# Altium schematic symbol library WR-BHD.SchLib: 220 symbols (part 4 of 5)
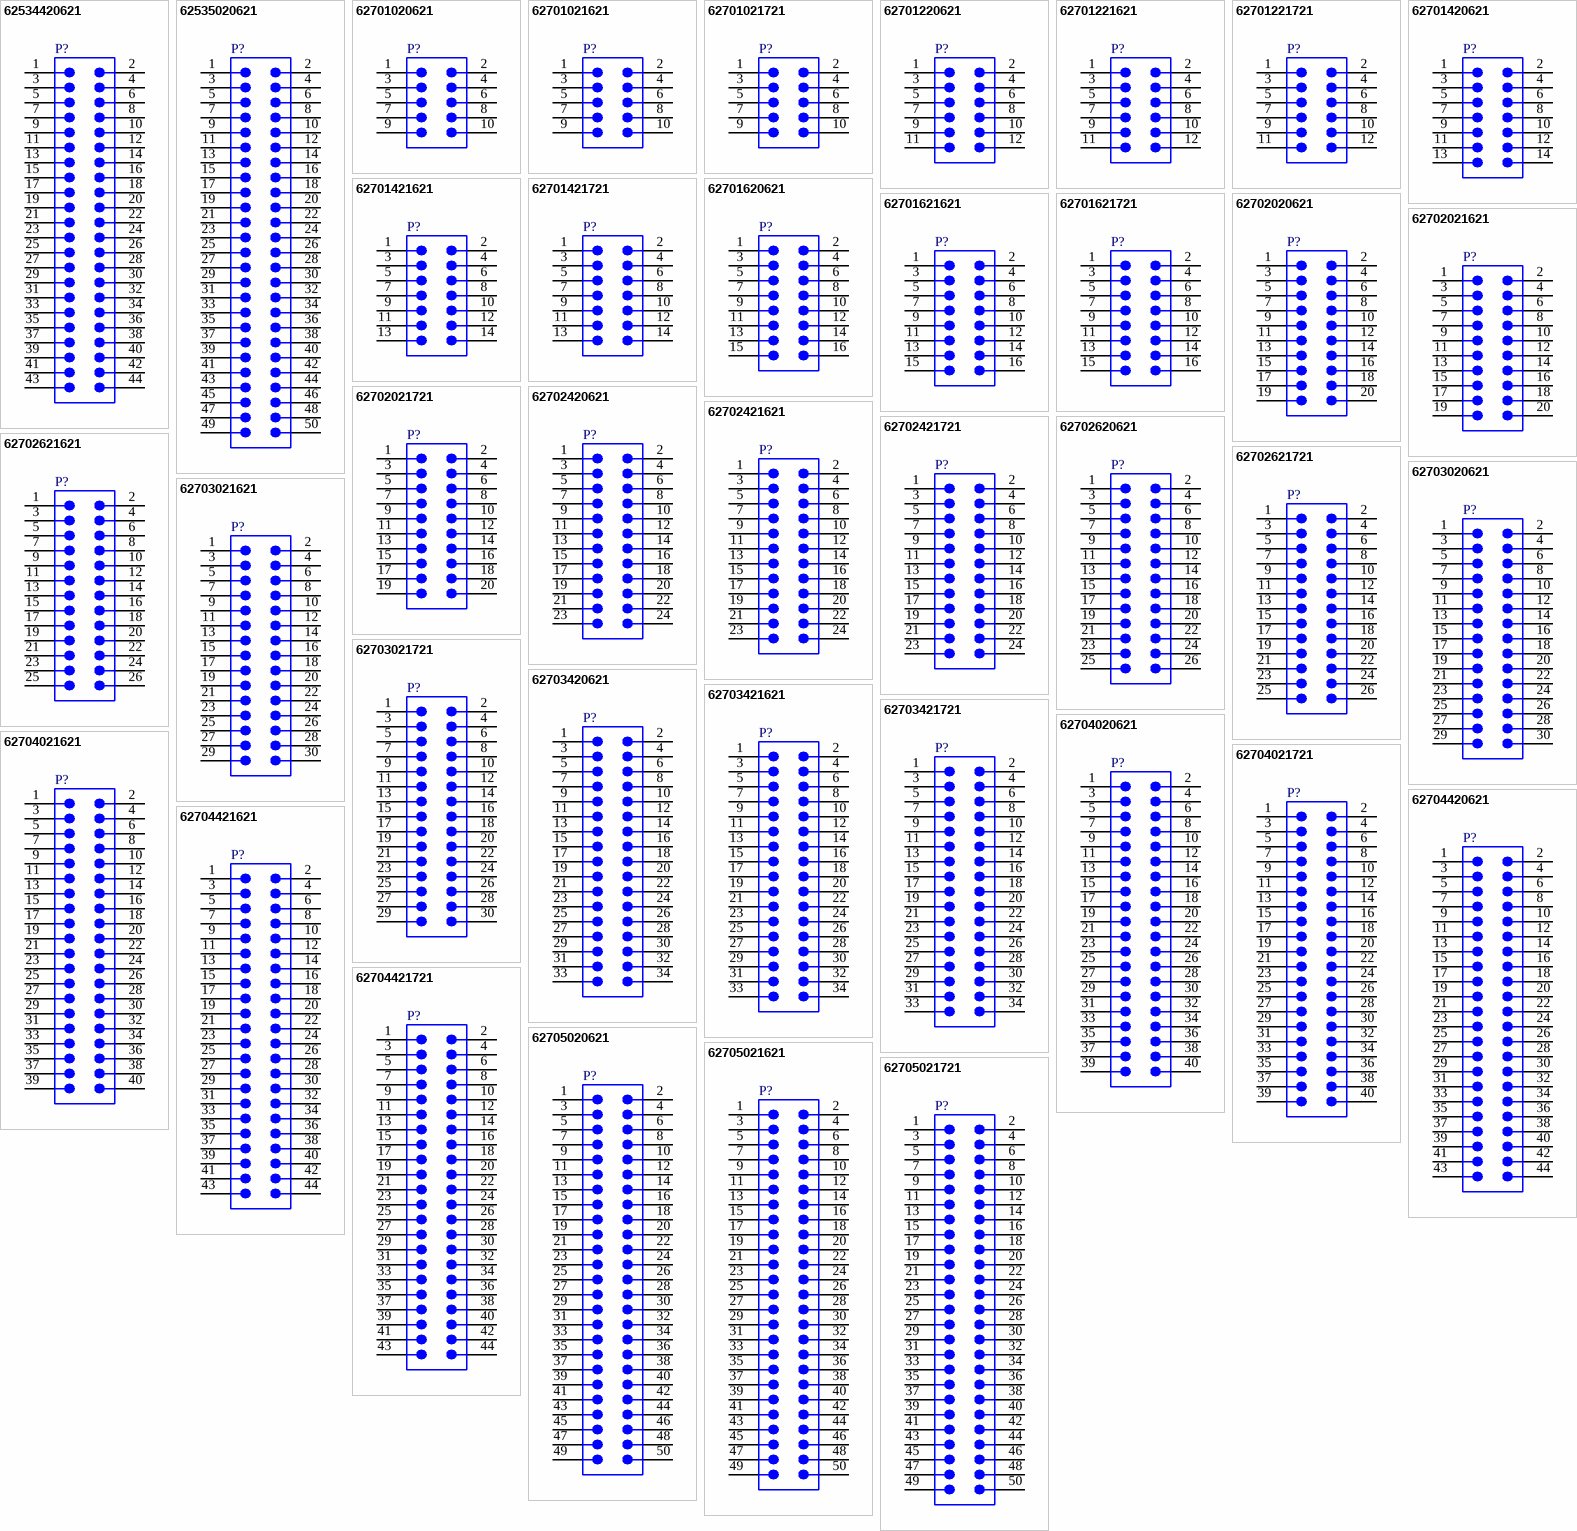
[diagram p8: symbols 62534420621 to 62705021721]

## 62534420621
designator P?  (value not drawn)
WR-BHD Male Box Header, SMT Straight, pitch 2 mm, 2 Rows, 44 Pins; Manufacturer: Wurth Elektronik; Contact Resistance: 20 mΩ; Insulation Resistance: 1000 MΩ; Pitch: 2 mm; Rated Current: 2 A; Working Voltage: 250 V; Withstanding Voltage: 500 V; Manufacturer Part Number: 62534420621; Category: Wire-to-Board Connector; Connectors.Match Code: WR-BHD; ComponentLink1Description: Website Link; ComponentLink1URL: https://www.we-online.com/redexpert/article/62534420621?ad; ComponentLink2Description: Datasheet Link; ComponentLink2URL: https://www.we-online.com/redexpert/spec/62534420621?ad; Mount: Surface Mount; Min Operating Temperature: -40 °C; Max Operating Temperature: 105 °C; Packaging: Tape and Reel with Cap; Length: 51.25 mm; Width: 5.5 mm; Height: 6.8 mm; Gender: Male; Number of Pins: 44; Number of Rows: 2; Orientation: Straight
footprint 62534420621
pins: 1, 2, 3, 4, 5, 6, 7, 8, 9, 10, 11, 12, 13, 14, 15, 16, 17, 18, 19, 20, 21, 22, 23, 24, 25, 26, 27, 28, 29, 30, 31, 32, 33, 34, 35, 36, 37, 38, 39, 40, 41, 42, 43, 44

## 62535020621
designator P?  (value not drawn)
WR-BHD Male Box Header, SMT Straight, pitch 2 mm, 2 Rows, 50 Pins; Manufacturer: Wurth Elektronik; Contact Resistance: 20 mΩ; Insulation Resistance: 1000 MΩ; Pitch: 2 mm; Rated Current: 2 A; Working Voltage: 250 V; Withstanding Voltage: 500 V; Manufacturer Part Number: 62535020621; Category: Wire-to-Board Connector; Connectors.Match Code: WR-BHD; ComponentLink1Description: Website Link; ComponentLink1URL: https://www.we-online.com/redexpert/article/62535020621?ad; ComponentLink2Description: Datasheet Link; ComponentLink2URL: https://www.we-online.com/redexpert/spec/62535020621?ad; Mount: Surface Mount; Min Operating Temperature: -40 °C; Max Operating Temperature: 105 °C; Packaging: Tape and Reel with Cap; Length: 57.25 mm; Width: 5.5 mm; Height: 6.8 mm; Gender: Male; Number of Pins: 50; Number of Rows: 2; Orientation: Straight
footprint 62535020621
pins: 1, 2, 3, 4, 5, 6, 7, 8, 9, 10, 11, 12, 13, 14, 15, 16, 17, 18, 19, 20, 21, 22, 23, 24, 25, 26, 27, 28, 29, 30, 31, 32, 33, 34, 35, 36, 37, 38, 39, 40, 41, 42, 43, 44, 45, 46, 47, 48, 49, 50

## 62701020621
designator P?  (value not drawn)
WR-BHD Male Box Header, SMT Straight, pitch 1.27 mm, 2 Rows, 10 Pins; Manufacturer: Wurth Elektronik; Contact Resistance: 20 mΩ; Insulation Resistance: 1000 MΩ; Pitch: 1.27 mm; Rated Current: 1 A; Working Voltage: 50 V; Withstanding Voltage: 500 V; Manufacturer Part Number: 62701020621; Category: Wire-to-Board Connector; Connectors.Match Code: WR-BHD; ComponentLink1Description: Website Link; ComponentLink1URL: https://www.we-online.com/redexpert/article/62701020621?ad; ComponentLink2Description: Datasheet Link; ComponentLink2URL: https://www.we-online.com/redexpert/spec/62701020621?ad; Mount: Surface Mount; Min Operating Temperature: -40 °C; Max Operating Temperature: 105 °C; Packaging: Tape and Reel; Length: 12.7 mm; Width: 5 mm; Height: 5.3 mm; Gender: Male; Number of Pins: 10; Number of Rows: 2; Orientation: Straight
footprint 62701020621
pins: 1, 2, 3, 4, 5, 6, 7, 8, 9, 10

## 62701021621
designator P?  (value not drawn)
WR-BHD Male Box Header, THT Straight, pitch 1.27 mm, 2 Rows, 10 Pins; Manufacturer: Wurth Elektronik; Contact Resistance: 20 mΩ; Insulation Resistance: 1000 MΩ; Pitch: 1.27 mm; Rated Current: 1 A; Working Voltage: 50 V; Withstanding Voltage: 500 V; Manufacturer Part Number: 62701021621; Category: Wire-to-Board Connector; Connectors.Match Code: WR-BHD; ComponentLink1Description: Website Link; ComponentLink1URL: https://www.we-online.com/redexpert/article/62701021621?ad; ComponentLink2Description: Datasheet Link; ComponentLink2URL: https://www.we-online.com/redexpert/spec/62701021621?ad; Mount: Through Hole; Min Operating Temperature: -40 °C; Max Operating Temperature: 105 °C; Packaging: Tube; Length: 12.7 mm; Width: 5 mm; Height: 4.9 mm; Gender: Male; Number of Pins: 10; Number of Rows: 2; Orientation: Straight
footprint 62701021621
pins: 1, 2, 3, 4, 5, 6, 7, 8, 9, 10

## 62701021721
designator P?  (value not drawn)
WR-BHD Male Box Header, THT Right Angle, pitch 1.27 mm, 2 Rows, 10 Pins; Manufacturer: Wurth Elektronik; Contact Resistance: 20 mΩ; Insulation Resistance: 1000 MΩ; Pitch: 1.27 mm; Rated Current: 1 A; Working Voltage: 50 V; Withstanding Voltage: 500 V; Manufacturer Part Number: 62701021721; Category: Wire-to-Board Connector; Connectors.Match Code: WR-BHD; ComponentLink1Description: Website Link; ComponentLink1URL: https://www.we-online.com/redexpert/article/62701021721?ad; ComponentLink2Description: Datasheet Link; ComponentLink2URL: https://www.we-online.com/redexpert/spec/62701021721?ad; Mount: Through Hole; Min Operating Temperature: -40 °C; Max Operating Temperature: 105 °C; Packaging: Tube; Length: 12.7 mm; Width: 6.97 mm; Height: 5 mm; Gender: Male; Number of Pins: 10; Number of Rows: 2; Orientation: Right Angle
footprint 62701021721
pins: 1, 2, 3, 4, 5, 6, 7, 8, 9, 10

## 62701220621
designator P?  (value not drawn)
WR-BHD Male Box Header, SMT Straight, pitch 1.27 mm, 2 Rows, 12 Pins; Manufacturer: Wurth Elektronik; Contact Resistance: 20 mΩ; Insulation Resistance: 1000 MΩ; Pitch: 1.27 mm; Rated Current: 1 A; Working Voltage: 50 V; Withstanding Voltage: 500 V; Manufacturer Part Number: 62701220621; Category: Wire-to-Board Connector; Connectors.Match Code: WR-BHD; ComponentLink1Description: Website Link; ComponentLink1URL: https://www.we-online.com/redexpert/article/62701220621?ad; ComponentLink2Description: Datasheet Link; ComponentLink2URL: https://www.we-online.com/redexpert/spec/62701220621?ad; Mount: Surface Mount; Min Operating Temperature: -40 °C; Max Operating Temperature: 105 °C; Packaging: Tape and Reel; Length: 13.97 mm; Width: 5 mm; Height: 5.3 mm; Gender: Male; Number of Pins: 12; Number of Rows: 2; Orientation: Straight
footprint 62701220621
pins: 1, 2, 3, 4, 5, 6, 7, 8, 9, 10, 11, 12

## 62701221621
designator P?  (value not drawn)
WR-BHD Male Box Header, THT Straight, pitch 1.27 mm, 2 Rows, 12 Pins; Manufacturer: Wurth Elektronik; Contact Resistance: 20 mΩ; Insulation Resistance: 1000 MΩ; Pitch: 1.27 mm; Rated Current: 1 A; Working Voltage: 50 V; Withstanding Voltage: 500 V; Manufacturer Part Number: 62701221621; Category: Wire-to-Board Connector; Connectors.Match Code: WR-BHD; ComponentLink1Description: Website Link; ComponentLink1URL: https://www.we-online.com/redexpert/article/62701221621?ad; ComponentLink2Description: Datasheet Link; ComponentLink2URL: https://www.we-online.com/redexpert/spec/62701221621?ad; Mount: Through Hole; Min Operating Temperature: -40 °C; Max Operating Temperature: 105 °C; Packaging: Tube; Length: 13.97 mm; Width: 5 mm; Height: 4.9 mm; Gender: Male; Number of Pins: 12; Number of Rows: 2; Orientation: Straight
footprint 62701221621
pins: 1, 2, 3, 4, 5, 6, 7, 8, 9, 10, 11, 12

## 62701221721
designator P?  (value not drawn)
WR-BHD Male Box Header, THT Right Angle, pitch 1.27 mm, 2 Rows, 12 Pins; Manufacturer: Wurth Elektronik; Contact Resistance: 20 mΩ; Insulation Resistance: 1000 MΩ; Pitch: 1.27 mm; Rated Current: 1 A; Working Voltage: 50 V; Withstanding Voltage: 500 V; Manufacturer Part Number: 62701221721; Category: Wire-to-Board Connector; Connectors.Match Code: WR-BHD; ComponentLink1Description: Website Link; ComponentLink1URL: https://www.we-online.com/redexpert/article/62701221721?ad; ComponentLink2Description: Datasheet Link; ComponentLink2URL: https://www.we-online.com/redexpert/spec/62701221721?ad; Mount: Through Hole; Min Operating Temperature: -40 °C; Max Operating Temperature: 105 °C; Packaging: Tube; Length: 13.97 mm; Width: 6.97 mm; Height: 5 mm; Gender: Male; Number of Pins: 12; Number of Rows: 2; Orientation: Right Angle
footprint 62701221721
pins: 1, 2, 3, 4, 5, 6, 7, 8, 9, 10, 11, 12

## 62701420621
designator P?  (value not drawn)
WR-BHD Male Box Header, SMT Straight, pitch 1.27 mm, 2 Rows, 14 Pins; Manufacturer: Wurth Elektronik; Contact Resistance: 20 mΩ; Insulation Resistance: 1000 MΩ; Pitch: 1.27 mm; Rated Current: 1 A; Working Voltage: 50 V; Withstanding Voltage: 500 V; Manufacturer Part Number: 62701420621; Category: Wire-to-Board Connector; Connectors.Match Code: WR-BHD; ComponentLink1Description: Website Link; ComponentLink1URL: https://www.we-online.com/redexpert/article/62701420621?ad; ComponentLink2Description: Datasheet Link; ComponentLink2URL: https://www.we-online.com/redexpert/spec/62701420621?ad; Mount: Surface Mount; Min Operating Temperature: -40 °C; Max Operating Temperature: 105 °C; Packaging: Tape and Reel; Length: 15.24 mm; Width: 5 mm; Height: 5.3 mm; Gender: Male; Number of Pins: 14; Number of Rows: 2; Orientation: Straight
footprint 62701420621
pins: 1, 2, 3, 4, 5, 6, 7, 8, 9, 10, 11, 12, 13, 14

## 62701421621
designator P?  (value not drawn)
WR-BHD Male Box Header, THT Straight, pitch 1.27 mm, 2 Rows, 14 Pins; Manufacturer: Wurth Elektronik; Contact Resistance: 20 mΩ; Insulation Resistance: 1000 MΩ; Pitch: 1.27 mm; Rated Current: 1 A; Working Voltage: 50 V; Withstanding Voltage: 500 V; Manufacturer Part Number: 62701421621; Category: Wire-to-Board Connector; Connectors.Match Code: WR-BHD; ComponentLink1Description: Website Link; ComponentLink1URL: https://www.we-online.com/redexpert/article/62701421621?ad; ComponentLink2Description: Datasheet Link; ComponentLink2URL: https://www.we-online.com/redexpert/spec/62701421621?ad; Mount: Through Hole; Min Operating Temperature: -40 °C; Max Operating Temperature: 105 °C; Packaging: Tube; Length: 15.24 mm; Width: 5 mm; Height: 4.9 mm; Gender: Male; Number of Pins: 14; Number of Rows: 2; Orientation: Straight
footprint 62701421621
pins: 1, 2, 3, 4, 5, 6, 7, 8, 9, 10, 11, 12, 13, 14

## 62701421721
designator P?  (value not drawn)
WR-BHD Male Box Header, THT Right Angle, pitch 1.27 mm, 2 Rows, 14 Pins; Manufacturer: Wurth Elektronik; Contact Resistance: 20 mΩ; Insulation Resistance: 1000 MΩ; Pitch: 1.27 mm; Rated Current: 1 A; Working Voltage: 50 V; Withstanding Voltage: 500 V; Manufacturer Part Number: 62701421721; Category: Wire-to-Board Connector; Connectors.Match Code: WR-BHD; ComponentLink1Description: Website Link; ComponentLink1URL: https://www.we-online.com/redexpert/article/62701421721?ad; ComponentLink2Description: Datasheet Link; ComponentLink2URL: https://www.we-online.com/redexpert/spec/62701421721?ad; Mount: Through Hole; Min Operating Temperature: -40 °C; Max Operating Temperature: 105 °C; Packaging: Tube; Length: 15.24 mm; Width: 6.97 mm; Height: 5 mm; Gender: Male; Number of Pins: 14; Number of Rows: 2; Orientation: Right Angle
footprint 62701421721
pins: 1, 2, 3, 4, 5, 6, 7, 8, 9, 10, 11, 12, 13, 14

## 62701620621
designator P?  (value not drawn)
WR-BHD Male Box Header, SMT Straight, pitch 1.27 mm, 2 Rows, 16 Pins; Manufacturer: Wurth Elektronik; Contact Resistance: 20 mΩ; Insulation Resistance: 1000 MΩ; Pitch: 1.27 mm; Rated Current: 1 A; Working Voltage: 50 V; Withstanding Voltage: 500 V; Manufacturer Part Number: 62701620621; Category: Wire-to-Board Connector; Connectors.Match Code: WR-BHD; ComponentLink1Description: Website Link; ComponentLink1URL: https://www.we-online.com/redexpert/article/62701620621?ad; ComponentLink2Description: Datasheet Link; ComponentLink2URL: https://www.we-online.com/redexpert/spec/62701620621?ad; Mount: Surface Mount; Min Operating Temperature: -40 °C; Max Operating Temperature: 105 °C; Packaging: Tape and Reel; Length: 16.51 mm; Width: 5 mm; Height: 5.3 mm; Gender: Male; Number of Pins: 16; Number of Rows: 2; Orientation: Straight
footprint 62701620621
pins: 1, 2, 3, 4, 5, 6, 7, 8, 9, 10, 11, 12, 13, 14, 15, 16

## 62701621621
designator P?  (value not drawn)
WR-BHD Male Box Header, THT Straight, pitch 1.27 mm, 2 Rows, 16 Pins; Manufacturer: Wurth Elektronik; Contact Resistance: 20 mΩ; Insulation Resistance: 1000 MΩ; Pitch: 1.27 mm; Rated Current: 1 A; Working Voltage: 50 V; Withstanding Voltage: 500 V; Manufacturer Part Number: 62701621621; Category: Wire-to-Board Connector; Connectors.Match Code: WR-BHD; ComponentLink1Description: Website Link; ComponentLink1URL: https://www.we-online.com/redexpert/article/62701621621?ad; ComponentLink2Description: Datasheet Link; ComponentLink2URL: https://www.we-online.com/redexpert/spec/62701621621?ad; Mount: Through Hole; Min Operating Temperature: -40 °C; Max Operating Temperature: 105 °C; Packaging: Tube; Length: 16.51 mm; Width: 5 mm; Height: 4.9 mm; Gender: Male; Number of Pins: 16; Number of Rows: 2; Orientation: Straight
footprint 62701621621
pins: 1, 2, 3, 4, 5, 6, 7, 8, 9, 10, 11, 12, 13, 14, 15, 16

## 62701621721
designator P?  (value not drawn)
WR-BHD Male Box Header, THT Right Angle, pitch 1.27 mm, 2 Rows, 16 Pins; Manufacturer: Wurth Elektronik; Contact Resistance: 20 mΩ; Insulation Resistance: 1000 MΩ; Pitch: 1.27 mm; Rated Current: 1 A; Working Voltage: 50 V; Withstanding Voltage: 500 V; Manufacturer Part Number: 62701621721; Category: Wire-to-Board Connector; Connectors.Match Code: WR-BHD; ComponentLink1Description: Website Link; ComponentLink1URL: https://www.we-online.com/redexpert/article/62701621721?ad; ComponentLink2Description: Datasheet Link; ComponentLink2URL: https://www.we-online.com/redexpert/spec/62701621721?ad; Mount: Through Hole; Min Operating Temperature: -40 °C; Max Operating Temperature: 105 °C; Packaging: Tube; Length: 16.51 mm; Width: 6.97 mm; Height: 5 mm; Gender: Male; Number of Pins: 16; Number of Rows: 2; Orientation: Right Angle
footprint 62701621721
pins: 1, 2, 3, 4, 5, 6, 7, 8, 9, 10, 11, 12, 13, 14, 15, 16

## 62702020621
designator P?  (value not drawn)
WR-BHD Male Box Header, SMT Straight, pitch 1.27 mm, 2 Rows, 20 Pins; Manufacturer: Wurth Elektronik; Contact Resistance: 20 mΩ; Insulation Resistance: 1000 MΩ; Pitch: 1.27 mm; Rated Current: 1 A; Working Voltage: 50 V; Withstanding Voltage: 500 V; Manufacturer Part Number: 62702020621; Category: Wire-to-Board Connector; Connectors.Match Code: WR-BHD; ComponentLink1Description: Website Link; ComponentLink1URL: https://www.we-online.com/redexpert/article/62702020621?ad; ComponentLink2Description: Datasheet Link; ComponentLink2URL: https://www.we-online.com/redexpert/spec/62702020621?ad; Mount: Surface Mount; Min Operating Temperature: -40 °C; Max Operating Temperature: 105 °C; Packaging: Tape and Reel; Length: 19.05 mm; Width: 5 mm; Height: 5.3 mm; Gender: Male; Number of Pins: 20; Number of Rows: 2; Orientation: Straight
footprint 62702020621
pins: 1, 2, 3, 4, 5, 6, 7, 8, 9, 10, 11, 12, 13, 14, 15, 16, 17, 18, 19, 20

## 62702021621
designator P?  (value not drawn)
WR-BHD Male Box Header, THT Straight, pitch 1.27 mm, 2 Rows, 20 Pins; Manufacturer: Wurth Elektronik; Contact Resistance: 20 mΩ; Insulation Resistance: 1000 MΩ; Pitch: 1.27 mm; Rated Current: 1 A; Working Voltage: 50 V; Withstanding Voltage: 500 V; Manufacturer Part Number: 62702021621; Category: Wire-to-Board Connector; Connectors.Match Code: WR-BHD; ComponentLink1Description: Website Link; ComponentLink1URL: https://www.we-online.com/redexpert/article/62702021621?ad; ComponentLink2Description: Datasheet Link; ComponentLink2URL: https://www.we-online.com/redexpert/spec/62702021621?ad; Mount: Through Hole; Min Operating Temperature: -40 °C; Max Operating Temperature: 105 °C; Packaging: Tube; Length: 19.05 mm; Width: 5 mm; Height: 4.9 mm; Gender: Male; Number of Pins: 20; Number of Rows: 2; Orientation: Straight
footprint 62702021621
pins: 1, 2, 3, 4, 5, 6, 7, 8, 9, 10, 11, 12, 13, 14, 15, 16, 17, 18, 19, 20

## 62702021721
designator P?  (value not drawn)
WR-BHD Male Box Header, THT Right Angle, pitch 1.27 mm, 2 Rows, 20 Pins; Manufacturer: Wurth Elektronik; Contact Resistance: 20 mΩ; Insulation Resistance: 1000 MΩ; Pitch: 1.27 mm; Rated Current: 1 A; Working Voltage: 50 V; Withstanding Voltage: 500 V; Manufacturer Part Number: 62702021721; Category: Wire-to-Board Connector; Connectors.Match Code: WR-BHD; ComponentLink1Description: Website Link; ComponentLink1URL: https://www.we-online.com/redexpert/article/62702021721?ad; ComponentLink2Description: Datasheet Link; ComponentLink2URL: https://www.we-online.com/redexpert/spec/62702021721?ad; Mount: Through Hole; Min Operating Temperature: -40 °C; Max Operating Temperature: 105 °C; Packaging: Tube; Length: 19.05 mm; Width: 6.97 mm; Height: 5 mm; Gender: Male; Number of Pins: 20; Number of Rows: 2; Orientation: Right Angle
footprint 62702021721
pins: 1, 2, 3, 4, 5, 6, 7, 8, 9, 10, 11, 12, 13, 14, 15, 16, 17, 18, 19, 20

## 62702420621
designator P?  (value not drawn)
WR-BHD Male Box Header, SMT Straight, pitch 1.27 mm, 2 Rows, 24 Pins; Manufacturer: Wurth Elektronik; Contact Resistance: 20 mΩ; Insulation Resistance: 1000 MΩ; Pitch: 1.27 mm; Rated Current: 1 A; Working Voltage: 50 V; Withstanding Voltage: 500 V; Manufacturer Part Number: 62702420621; Category: Wire-to-Board Connector; Connectors.Match Code: WR-BHD; ComponentLink1Description: Website Link; ComponentLink1URL: https://www.we-online.com/redexpert/article/62702420621?ad; ComponentLink2Description: Datasheet Link; ComponentLink2URL: https://www.we-online.com/redexpert/spec/62702420621?ad; Mount: Surface Mount; Min Operating Temperature: -40 °C; Max Operating Temperature: 105 °C; Packaging: Tape and Reel; Length: 21.59 mm; Width: 5 mm; Height: 5.3 mm; Gender: Male; Number of Pins: 24; Number of Rows: 2; Orientation: Straight
footprint 62702420621
pins: 1, 2, 3, 4, 5, 6, 7, 8, 9, 10, 11, 12, 13, 14, 15, 16, 17, 18, 19, 20, 21, 22, 23, 24

## 62702421621
designator P?  (value not drawn)
WR-BHD Male Box Header, THT Straight, pitch 1.27 mm, 2 Rows, 24 Pins; Manufacturer: Wurth Elektronik; Contact Resistance: 20 mΩ; Insulation Resistance: 1000 MΩ; Pitch: 1.27 mm; Rated Current: 1 A; Working Voltage: 50 V; Withstanding Voltage: 500 V; Manufacturer Part Number: 62702421621; Category: Wire-to-Board Connector; Connectors.Match Code: WR-BHD; ComponentLink1Description: Website Link; ComponentLink1URL: https://www.we-online.com/redexpert/article/62702421621?ad; ComponentLink2Description: Datasheet Link; ComponentLink2URL: https://www.we-online.com/redexpert/spec/62702421621?ad; Mount: Through Hole; Min Operating Temperature: -40 °C; Max Operating Temperature: 105 °C; Packaging: Tube; Length: 21.59 mm; Width: 5 mm; Height: 4.9 mm; Gender: Male; Number of Pins: 24; Number of Rows: 2; Orientation: Straight
footprint 62702421621
pins: 1, 2, 3, 4, 5, 6, 7, 8, 9, 10, 11, 12, 13, 14, 15, 16, 17, 18, 19, 20, 21, 22, 23, 24

## 62702421721
designator P?  (value not drawn)
WR-BHD Male Box Header, THT Right Angle, pitch 1.27 mm, 2 Rows, 24 Pins; Manufacturer: Wurth Elektronik; Contact Resistance: 20 mΩ; Insulation Resistance: 1000 MΩ; Pitch: 1.27 mm; Rated Current: 1 A; Working Voltage: 50 V; Withstanding Voltage: 500 V; Manufacturer Part Number: 62702421721; Category: Wire-to-Board Connector; Connectors.Match Code: WR-BHD; ComponentLink1Description: Website Link; ComponentLink1URL: https://www.we-online.com/redexpert/article/62702421721?ad; ComponentLink2Description: Datasheet Link; ComponentLink2URL: https://www.we-online.com/redexpert/spec/62702421721?ad; Mount: Through Hole; Min Operating Temperature: -40 °C; Max Operating Temperature: 105 °C; Packaging: Tube; Length: 21.59 mm; Width: 6.97 mm; Height: 5 mm; Gender: Male; Number of Pins: 24; Number of Rows: 2; Orientation: Right Angle
footprint 62702421721
pins: 1, 2, 3, 4, 5, 6, 7, 8, 9, 10, 11, 12, 13, 14, 15, 16, 17, 18, 19, 20, 21, 22, 23, 24

## 62702620621
designator P?  (value not drawn)
WR-BHD Male Box Header, SMT Straight, pitch 1.27 mm, 2 Rows, 26 Pins; Manufacturer: Wurth Elektronik; Contact Resistance: 20 mΩ; Insulation Resistance: 1000 MΩ; Pitch: 1.27 mm; Rated Current: 1 A; Working Voltage: 50 V; Withstanding Voltage: 500 V; Manufacturer Part Number: 62702620621; Category: Wire-to-Board Connector; Connectors.Match Code: WR-BHD; ComponentLink1Description: Website Link; ComponentLink1URL: https://www.we-online.com/redexpert/article/62702620621?ad; ComponentLink2Description: Datasheet Link; ComponentLink2URL: https://www.we-online.com/redexpert/spec/62702620621?ad; Mount: Surface Mount; Min Operating Temperature: -40 °C; Max Operating Temperature: 105 °C; Packaging: Tape and Reel; Length: 22.86 mm; Width: 5 mm; Height: 5.3 mm; Gender: Male; Number of Pins: 26; Number of Rows: 2; Orientation: Straight
footprint 62702620621
pins: 1, 2, 3, 4, 5, 6, 7, 8, 9, 10, 11, 12, 13, 14, 15, 16, 17, 18, 19, 20, 21, 22, 23, 24, 25, 26

## 62702621621
designator P?  (value not drawn)
WR-BHD Male Box Header, THT Straight, pitch 1.27 mm, 2 Rows, 26 Pins; Manufacturer: Wurth Elektronik; Contact Resistance: 20 mΩ; Insulation Resistance: 1000 MΩ; Pitch: 1.27 mm; Rated Current: 1 A; Working Voltage: 50 V; Withstanding Voltage: 500 V; Manufacturer Part Number: 62702621621; Category: Wire-to-Board Connector; Connectors.Match Code: WR-BHD; ComponentLink1Description: Website Link; ComponentLink1URL: https://www.we-online.com/redexpert/article/62702621621?ad; ComponentLink2Description: Datasheet Link; ComponentLink2URL: https://www.we-online.com/redexpert/spec/62702621621?ad; Mount: Through Hole; Min Operating Temperature: -40 °C; Max Operating Temperature: 105 °C; Packaging: Tube; Length: 22.86 mm; Width: 5 mm; Height: 4.9 mm; Gender: Male; Number of Pins: 26; Number of Rows: 2; Orientation: Straight
footprint 62702621621
pins: 1, 2, 3, 4, 5, 6, 7, 8, 9, 10, 11, 12, 13, 14, 15, 16, 17, 18, 19, 20, 21, 22, 23, 24, 25, 26

## 62702621721
designator P?  (value not drawn)
WR-BHD Male Box Header, THT Right Angle, pitch 1.27 mm, 2 Rows, 26 Pins; Manufacturer: Wurth Elektronik; Contact Resistance: 20 mΩ; Insulation Resistance: 1000 MΩ; Pitch: 1.27 mm; Rated Current: 1 A; Working Voltage: 50 V; Withstanding Voltage: 500 V; Manufacturer Part Number: 62702621721; Category: Wire-to-Board Connector; Connectors.Match Code: WR-BHD; ComponentLink1Description: Website Link; ComponentLink1URL: https://www.we-online.com/redexpert/article/62702621721?ad; ComponentLink2Description: Datasheet Link; ComponentLink2URL: https://www.we-online.com/redexpert/spec/62702621721?ad; Mount: Through Hole; Min Operating Temperature: -40 °C; Max Operating Temperature: 105 °C; Packaging: Tube; Length: 22.86 mm; Width: 6.97 mm; Height: 5 mm; Gender: Male; Number of Pins: 26; Number of Rows: 2; Orientation: Right Angle
footprint 62702621721
pins: 1, 2, 3, 4, 5, 6, 7, 8, 9, 10, 11, 12, 13, 14, 15, 16, 17, 18, 19, 20, 21, 22, 23, 24, 25, 26

## 62703020621
designator P?  (value not drawn)
WR-BHD Male Box Header, SMT Straight, pitch 1.27 mm, 2 Rows, 30 Pins; Manufacturer: Wurth Elektronik; Contact Resistance: 20 mΩ; Insulation Resistance: 1000 MΩ; Pitch: 1.27 mm; Rated Current: 1 A; Working Voltage: 50 V; Withstanding Voltage: 500 V; Manufacturer Part Number: 62703020621; Category: Wire-to-Board Connector; Connectors.Match Code: WR-BHD; ComponentLink1Description: Website Link; ComponentLink1URL: https://www.we-online.com/redexpert/article/62703020621?ad; ComponentLink2Description: Datasheet Link; ComponentLink2URL: https://www.we-online.com/redexpert/spec/62703020621?ad; Mount: Surface Mount; Min Operating Temperature: -40 °C; Max Operating Temperature: 105 °C; Packaging: Tape and Reel; Length: 25.4 mm; Width: 5 mm; Height: 5.3 mm; Gender: Male; Number of Pins: 30; Number of Rows: 2; Orientation: Straight
footprint 62703020621
pins: 1, 2, 3, 4, 5, 6, 7, 8, 9, 10, 11, 12, 13, 14, 15, 16, 17, 18, 19, 20, 21, 22, 23, 24, 25, 26, 27, 28, 29, 30

## 62703021621
designator P?  (value not drawn)
WR-BHD Male Box Header, THT Straight, pitch 1.27 mm, 2 Rows, 30 Pins; Manufacturer: Wurth Elektronik; Contact Resistance: 20 mΩ; Insulation Resistance: 1000 MΩ; Pitch: 1.27 mm; Rated Current: 1 A; Working Voltage: 50 V; Withstanding Voltage: 500 V; Manufacturer Part Number: 62703021621; Category: Wire-to-Board Connector; Connectors.Match Code: WR-BHD; ComponentLink1Description: Website Link; ComponentLink1URL: https://www.we-online.com/redexpert/article/62703021621?ad; ComponentLink2Description: Datasheet Link; ComponentLink2URL: https://www.we-online.com/redexpert/spec/62703021621?ad; Mount: Through Hole; Min Operating Temperature: -40 °C; Max Operating Temperature: 105 °C; Packaging: Tube; Length: 25.4 mm; Width: 5 mm; Height: 4.9 mm; Gender: Male; Number of Pins: 30; Number of Rows: 2; Orientation: Straight
footprint 62703021621
pins: 1, 2, 3, 4, 5, 6, 7, 8, 9, 10, 11, 12, 13, 14, 15, 16, 17, 18, 19, 20, 21, 22, 23, 24, 25, 26, 27, 28, 29, 30

## 62703021721
designator P?  (value not drawn)
WR-BHD Male Box Header, THT Right Angle, pitch 1.27 mm, 2 Rows, 30 Pins; Manufacturer: Wurth Elektronik; Contact Resistance: 20 mΩ; Insulation Resistance: 1000 MΩ; Pitch: 1.27 mm; Rated Current: 1 A; Working Voltage: 50 V; Withstanding Voltage: 500 V; Manufacturer Part Number: 62703021721; Category: Wire-to-Board Connector; Connectors.Match Code: WR-BHD; ComponentLink1Description: Website Link; ComponentLink1URL: https://www.we-online.com/redexpert/article/62703021721?ad; ComponentLink2Description: Datasheet Link; ComponentLink2URL: https://www.we-online.com/redexpert/spec/62703021721?ad; Mount: Through Hole; Min Operating Temperature: -40 °C; Max Operating Temperature: 105 °C; Packaging: Tube; Length: 25.4 mm; Width: 6.97 mm; Height: 5 mm; Gender: Male; Number of Pins: 30; Number of Rows: 2; Orientation: Right Angle
footprint 62703021721
pins: 1, 2, 3, 4, 5, 6, 7, 8, 9, 10, 11, 12, 13, 14, 15, 16, 17, 18, 19, 20, 21, 22, 23, 24, 25, 26, 27, 28, 29, 30

## 62703420621
designator P?  (value not drawn)
WR-BHD Male Box Header, SMT Straight, pitch 1.27 mm, 2 Rows, 34 Pins; Manufacturer: Wurth Elektronik; Contact Resistance: 20 mΩ; Insulation Resistance: 1000 MΩ; Pitch: 1.27 mm; Rated Current: 1 A; Working Voltage: 50 V; Withstanding Voltage: 500 V; Manufacturer Part Number: 62703420621; Category: Wire-to-Board Connector; Connectors.Match Code: WR-BHD; ComponentLink1Description: Website Link; ComponentLink1URL: https://www.we-online.com/redexpert/article/62703420621?ad; ComponentLink2Description: Datasheet Link; ComponentLink2URL: https://www.we-online.com/redexpert/spec/62703420621?ad; Mount: Surface Mount; Min Operating Temperature: -40 °C; Max Operating Temperature: 105 °C; Packaging: Tape and Reel; Length: 27.94 mm; Width: 5 mm; Height: 5.3 mm; Gender: Male; Number of Pins: 34; Number of Rows: 2; Orientation: Straight
footprint 62703420621
pins: 1, 2, 3, 4, 5, 6, 7, 8, 9, 10, 11, 12, 13, 14, 15, 16, 17, 18, 19, 20, 21, 22, 23, 24, 25, 26, 27, 28, 29, 30, 31, 32, 33, 34

## 62703421621
designator P?  (value not drawn)
WR-BHD Male Box Header, THT Straight, pitch 1.27 mm, 2 Rows, 34 Pins; Manufacturer: Wurth Elektronik; Contact Resistance: 20 mΩ; Insulation Resistance: 1000 MΩ; Pitch: 1.27 mm; Rated Current: 1 A; Working Voltage: 50 V; Withstanding Voltage: 500 V; Manufacturer Part Number: 62703421621; Category: Wire-to-Board Connector; Connectors.Match Code: WR-BHD; ComponentLink1Description: Website Link; ComponentLink1URL: https://www.we-online.com/redexpert/article/62703421621?ad; ComponentLink2Description: Datasheet Link; ComponentLink2URL: https://www.we-online.com/redexpert/spec/62703421621?ad; Mount: Through Hole; Min Operating Temperature: -40 °C; Max Operating Temperature: 105 °C; Packaging: Tube; Length: 27.94 mm; Width: 5 mm; Height: 4.9 mm; Gender: Male; Number of Pins: 34; Number of Rows: 2; Orientation: Straight
footprint 62703421621
pins: 1, 2, 3, 4, 5, 6, 7, 8, 9, 10, 11, 12, 13, 14, 15, 16, 17, 18, 19, 20, 21, 22, 23, 24, 25, 26, 27, 28, 29, 30, 31, 32, 33, 34

## 62703421721
designator P?  (value not drawn)
WR-BHD Male Box Header, THT Right Angle, pitch 1.27 mm, 2 Rows, 34 Pins; Manufacturer: Wurth Elektronik; Contact Resistance: 20 mΩ; Insulation Resistance: 1000 MΩ; Pitch: 1.27 mm; Rated Current: 1 A; Working Voltage: 50 V; Withstanding Voltage: 500 V; Manufacturer Part Number: 62703421721; Category: Wire-to-Board Connector; Connectors.Match Code: WR-BHD; ComponentLink1Description: Website Link; ComponentLink1URL: https://www.we-online.com/redexpert/article/62703421721?ad; ComponentLink2Description: Datasheet Link; ComponentLink2URL: https://www.we-online.com/redexpert/spec/62703421721?ad; Mount: Through Hole; Min Operating Temperature: -40 °C; Max Operating Temperature: 105 °C; Packaging: Tube; Length: 27.94 mm; Width: 6.97 mm; Height: 5 mm; Gender: Male; Number of Pins: 34; Number of Rows: 2; Orientation: Right Angle
footprint 62703421721
pins: 1, 2, 3, 4, 5, 6, 7, 8, 9, 10, 11, 12, 13, 14, 15, 16, 17, 18, 19, 20, 21, 22, 23, 24, 25, 26, 27, 28, 29, 30, 31, 32, 33, 34

## 62704020621
designator P?  (value not drawn)
WR-BHD Male Box Header, SMT Straight, pitch 1.27 mm, 2 Rows, 40 Pins; Manufacturer: Wurth Elektronik; Contact Resistance: 20 mΩ; Insulation Resistance: 1000 MΩ; Pitch: 1.27 mm; Rated Current: 1 A; Working Voltage: 50 V; Withstanding Voltage: 500 V; Manufacturer Part Number: 62704020621; Category: Wire-to-Board Connector; Connectors.Match Code: WR-BHD; ComponentLink1Description: Website Link; ComponentLink1URL: https://www.we-online.com/redexpert/article/62704020621?ad; ComponentLink2Description: Datasheet Link; ComponentLink2URL: https://www.we-online.com/redexpert/spec/62704020621?ad; Mount: Surface Mount; Min Operating Temperature: -40 °C; Max Operating Temperature: 105 °C; Packaging: Tape and Reel; Length: 31.75 mm; Width: 5 mm; Height: 5.3 mm; Gender: Male; Number of Pins: 40; Number of Rows: 2; Orientation: Straight
footprint 62704020621
pins: 1, 2, 3, 4, 5, 6, 7, 8, 9, 10, 11, 12, 13, 14, 15, 16, 17, 18, 19, 20, 21, 22, 23, 24, 25, 26, 27, 28, 29, 30, 31, 32, 33, 34, 35, 36, 37, 38, 39, 40

## 62704021621
designator P?  (value not drawn)
WR-BHD Male Box Header, THT Straight, pitch 1.27 mm, 2 Rows, 40 Pins; Manufacturer: Wurth Elektronik; Contact Resistance: 20 mΩ; Insulation Resistance: 1000 MΩ; Pitch: 1.27 mm; Rated Current: 1 A; Working Voltage: 50 V; Withstanding Voltage: 500 V; Manufacturer Part Number: 62704021621; Category: Wire-to-Board Connector; Connectors.Match Code: WR-BHD; ComponentLink1Description: Website Link; ComponentLink1URL: https://www.we-online.com/redexpert/article/62704021621?ad; ComponentLink2Description: Datasheet Link; ComponentLink2URL: https://www.we-online.com/redexpert/spec/62704021621?ad; Mount: Through Hole; Min Operating Temperature: -40 °C; Max Operating Temperature: 105 °C; Packaging: Tube; Length: 31.75 mm; Width: 5 mm; Height: 4.9 mm; Gender: Male; Number of Pins: 40; Number of Rows: 2; Orientation: Straight
footprint 62704021621
pins: 1, 2, 3, 4, 5, 6, 7, 8, 9, 10, 11, 12, 13, 14, 15, 16, 17, 18, 19, 20, 21, 22, 23, 24, 25, 26, 27, 28, 29, 30, 31, 32, 33, 34, 35, 36, 37, 38, 39, 40

## 62704021721
designator P?  (value not drawn)
WR-BHD Male Box Header, THT Right Angle, pitch 1.27 mm, 2 Rows, 40 Pins; Manufacturer: Wurth Elektronik; Contact Resistance: 20 mΩ; Insulation Resistance: 1000 MΩ; Pitch: 1.27 mm; Rated Current: 1 A; Working Voltage: 50 V; Withstanding Voltage: 500 V; Manufacturer Part Number: 62704021721; Category: Wire-to-Board Connector; Connectors.Match Code: WR-BHD; ComponentLink1Description: Website Link; ComponentLink1URL: https://www.we-online.com/redexpert/article/62704021721?ad; ComponentLink2Description: Datasheet Link; ComponentLink2URL: https://www.we-online.com/redexpert/spec/62704021721?ad; Mount: Through Hole; Min Operating Temperature: -40 °C; Max Operating Temperature: 105 °C; Packaging: Tube; Length: 31.75 mm; Width: 6.97 mm; Height: 5 mm; Gender: Male; Number of Pins: 40; Number of Rows: 2; Orientation: Right Angle
footprint 62704021721
pins: 1, 2, 3, 4, 5, 6, 7, 8, 9, 10, 11, 12, 13, 14, 15, 16, 17, 18, 19, 20, 21, 22, 23, 24, 25, 26, 27, 28, 29, 30, 31, 32, 33, 34, 35, 36, 37, 38, 39, 40

## 62704420621
designator P?  (value not drawn)
WR-BHD Male Box Header, SMT Straight, pitch 1.27 mm, 2 Rows, 44 Pins; Manufacturer: Wurth Elektronik; Contact Resistance: 20 mΩ; Insulation Resistance: 1000 MΩ; Pitch: 1.27 mm; Rated Current: 1 A; Working Voltage: 50 V; Withstanding Voltage: 500 V; Manufacturer Part Number: 62704420621; Category: Wire-to-Board Connector; Connectors.Match Code: WR-BHD; ComponentLink1Description: Website Link; ComponentLink1URL: https://www.we-online.com/redexpert/article/62704420621?ad; ComponentLink2Description: Datasheet Link; ComponentLink2URL: https://www.we-online.com/redexpert/spec/62704420621?ad; Mount: Surface Mount; Min Operating Temperature: -40 °C; Max Operating Temperature: 105 °C; Packaging: Tape and Reel; Length: 34.29 mm; Width: 5 mm; Height: 5.3 mm; Gender: Male; Number of Pins: 44; Number of Rows: 2; Orientation: Straight
footprint 62704420621
pins: 1, 2, 3, 4, 5, 6, 7, 8, 9, 10, 11, 12, 13, 14, 15, 16, 17, 18, 19, 20, 21, 22, 23, 24, 25, 26, 27, 28, 29, 30, 31, 32, 33, 34, 35, 36, 37, 38, 39, 40, 41, 42, 43, 44

## 62704421621
designator P?  (value not drawn)
WR-BHD Male Box Header, THT Straight, pitch 1.27 mm, 2 Rows, 44 Pins; Manufacturer: Wurth Elektronik; Contact Resistance: 20 mΩ; Insulation Resistance: 1000 MΩ; Pitch: 1.27 mm; Rated Current: 1 A; Working Voltage: 50 V; Withstanding Voltage: 500 V; Manufacturer Part Number: 62704421621; Category: Wire-to-Board Connector; Connectors.Match Code: WR-BHD; ComponentLink1Description: Website Link; ComponentLink1URL: https://www.we-online.com/redexpert/article/62704421621?ad; ComponentLink2Description: Datasheet Link; ComponentLink2URL: https://www.we-online.com/redexpert/spec/62704421621?ad; Mount: Through Hole; Min Operating Temperature: -40 °C; Max Operating Temperature: 105 °C; Packaging: Tube; Length: 34.29 mm; Width: 5 mm; Height: 4.9 mm; Gender: Male; Number of Pins: 44; Number of Rows: 2; Orientation: Straight
footprint 62704421621
pins: 1, 2, 3, 4, 5, 6, 7, 8, 9, 10, 11, 12, 13, 14, 15, 16, 17, 18, 19, 20, 21, 22, 23, 24, 25, 26, 27, 28, 29, 30, 31, 32, 33, 34, 35, 36, 37, 38, 39, 40, 41, 42, 43, 44

## 62704421721
designator P?  (value not drawn)
WR-BHD Male Box Header, THT Right Angle, pitch 1.27 mm, 2 Rows, 44 Pins; Manufacturer: Wurth Elektronik; Contact Resistance: 20 mΩ; Insulation Resistance: 1000 MΩ; Pitch: 1.27 mm; Rated Current: 1 A; Working Voltage: 50 V; Withstanding Voltage: 500 V; Manufacturer Part Number: 62704421721; Category: Wire-to-Board Connector; Connectors.Match Code: WR-BHD; ComponentLink1Description: Website Link; ComponentLink1URL: https://www.we-online.com/redexpert/article/62704421721?ad; ComponentLink2Description: Datasheet Link; ComponentLink2URL: https://www.we-online.com/redexpert/spec/62704421721?ad; Mount: Through Hole; Min Operating Temperature: -40 °C; Max Operating Temperature: 105 °C; Packaging: Tube; Length: 34.29 mm; Width: 6.97 mm; Height: 5 mm; Gender: Male; Number of Pins: 44; Number of Rows: 2; Orientation: Right Angle
footprint 62704421721
pins: 1, 2, 3, 4, 5, 6, 7, 8, 9, 10, 11, 12, 13, 14, 15, 16, 17, 18, 19, 20, 21, 22, 23, 24, 25, 26, 27, 28, 29, 30, 31, 32, 33, 34, 35, 36, 37, 38, 39, 40, 41, 42, 43, 44

## 62705020621
designator P?  (value not drawn)
WR-BHD Male Box Header, SMT Straight, pitch 1.27 mm, 2 Rows, 50 Pins; Manufacturer: Wurth Elektronik; Contact Resistance: 20 mΩ; Insulation Resistance: 1000 MΩ; Pitch: 1.27 mm; Rated Current: 1 A; Working Voltage: 50 V; Withstanding Voltage: 500 V; Manufacturer Part Number: 62705020621; Category: Wire-to-Board Connector; Connectors.Match Code: WR-BHD; ComponentLink1Description: Website Link; ComponentLink1URL: https://www.we-online.com/redexpert/article/62705020621?ad; ComponentLink2Description: Datasheet Link; ComponentLink2URL: https://www.we-online.com/redexpert/spec/62705020621?ad; Mount: Surface Mount; Min Operating Temperature: -40 °C; Max Operating Temperature: 105 °C; Packaging: Tape and Reel; Length: 38.1 mm; Width: 5 mm; Height: 5.3 mm; Gender: Male; Number of Pins: 50; Number of Rows: 2; Orientation: Straight
footprint 62705020621
pins: 1, 2, 3, 4, 5, 6, 7, 8, 9, 10, 11, 12, 13, 14, 15, 16, 17, 18, 19, 20, 21, 22, 23, 24, 25, 26, 27, 28, 29, 30, 31, 32, 33, 34, 35, 36, 37, 38, 39, 40, 41, 42, 43, 44, 45, 46, 47, 48, 49, 50

## 62705021621
designator P?  (value not drawn)
WR-BHD Male Box Header, THT Straight, pitch 1.27 mm, 2 Rows, 50 Pins; Manufacturer: Wurth Elektronik; Contact Resistance: 20 mΩ; Insulation Resistance: 1000 MΩ; Pitch: 1.27 mm; Rated Current: 1 A; Working Voltage: 50 V; Withstanding Voltage: 500 V; Manufacturer Part Number: 62705021621; Category: Wire-to-Board Connector; Connectors.Match Code: WR-BHD; ComponentLink1Description: Website Link; ComponentLink1URL: https://www.we-online.com/redexpert/article/62705021621?ad; ComponentLink2Description: Datasheet Link; ComponentLink2URL: https://www.we-online.com/redexpert/spec/62705021621?ad; Mount: Through Hole; Min Operating Temperature: -40 °C; Max Operating Temperature: 105 °C; Packaging: Tube; Length: 38.1 mm; Width: 5 mm; Height: 4.9 mm; Gender: Male; Number of Pins: 50; Number of Rows: 2; Orientation: Straight
footprint 62705021621
pins: 1, 2, 3, 4, 5, 6, 7, 8, 9, 10, 11, 12, 13, 14, 15, 16, 17, 18, 19, 20, 21, 22, 23, 24, 25, 26, 27, 28, 29, 30, 31, 32, 33, 34, 35, 36, 37, 38, 39, 40, 41, 42, 43, 44, 45, 46, 47, 48, 49, 50

## 62705021721
designator P?  (value not drawn)
WR-BHD Male Box Header, THT Right Angle, pitch 1.27 mm, 2 Rows, 50 Pins; Manufacturer: Wurth Elektronik; Contact Resistance: 20 mΩ; Insulation Resistance: 1000 MΩ; Pitch: 1.27 mm; Rated Current: 1 A; Working Voltage: 50 V; Withstanding Voltage: 500 V; Manufacturer Part Number: 62705021721; Category: Wire-to-Board Connector; Connectors.Match Code: WR-BHD; ComponentLink1Description: Website Link; ComponentLink1URL: https://www.we-online.com/redexpert/article/62705021721?ad; ComponentLink2Description: Datasheet Link; ComponentLink2URL: https://www.we-online.com/redexpert/spec/62705021721?ad; Mount: Through Hole; Min Operating Temperature: -40 °C; Max Operating Temperature: 105 °C; Packaging: Tube; Length: 38.1 mm; Width: 6.97 mm; Height: 5 mm; Gender: Male; Number of Pins: 50; Number of Rows: 2; Orientation: Right Angle
footprint 62705021721
pins: 1, 2, 3, 4, 5, 6, 7, 8, 9, 10, 11, 12, 13, 14, 15, 16, 17, 18, 19, 20, 21, 22, 23, 24, 25, 26, 27, 28, 29, 30, 31, 32, 33, 34, 35, 36, 37, 38, 39, 40, 41, 42, 43, 44, 45, 46, 47, 48, 49, 50

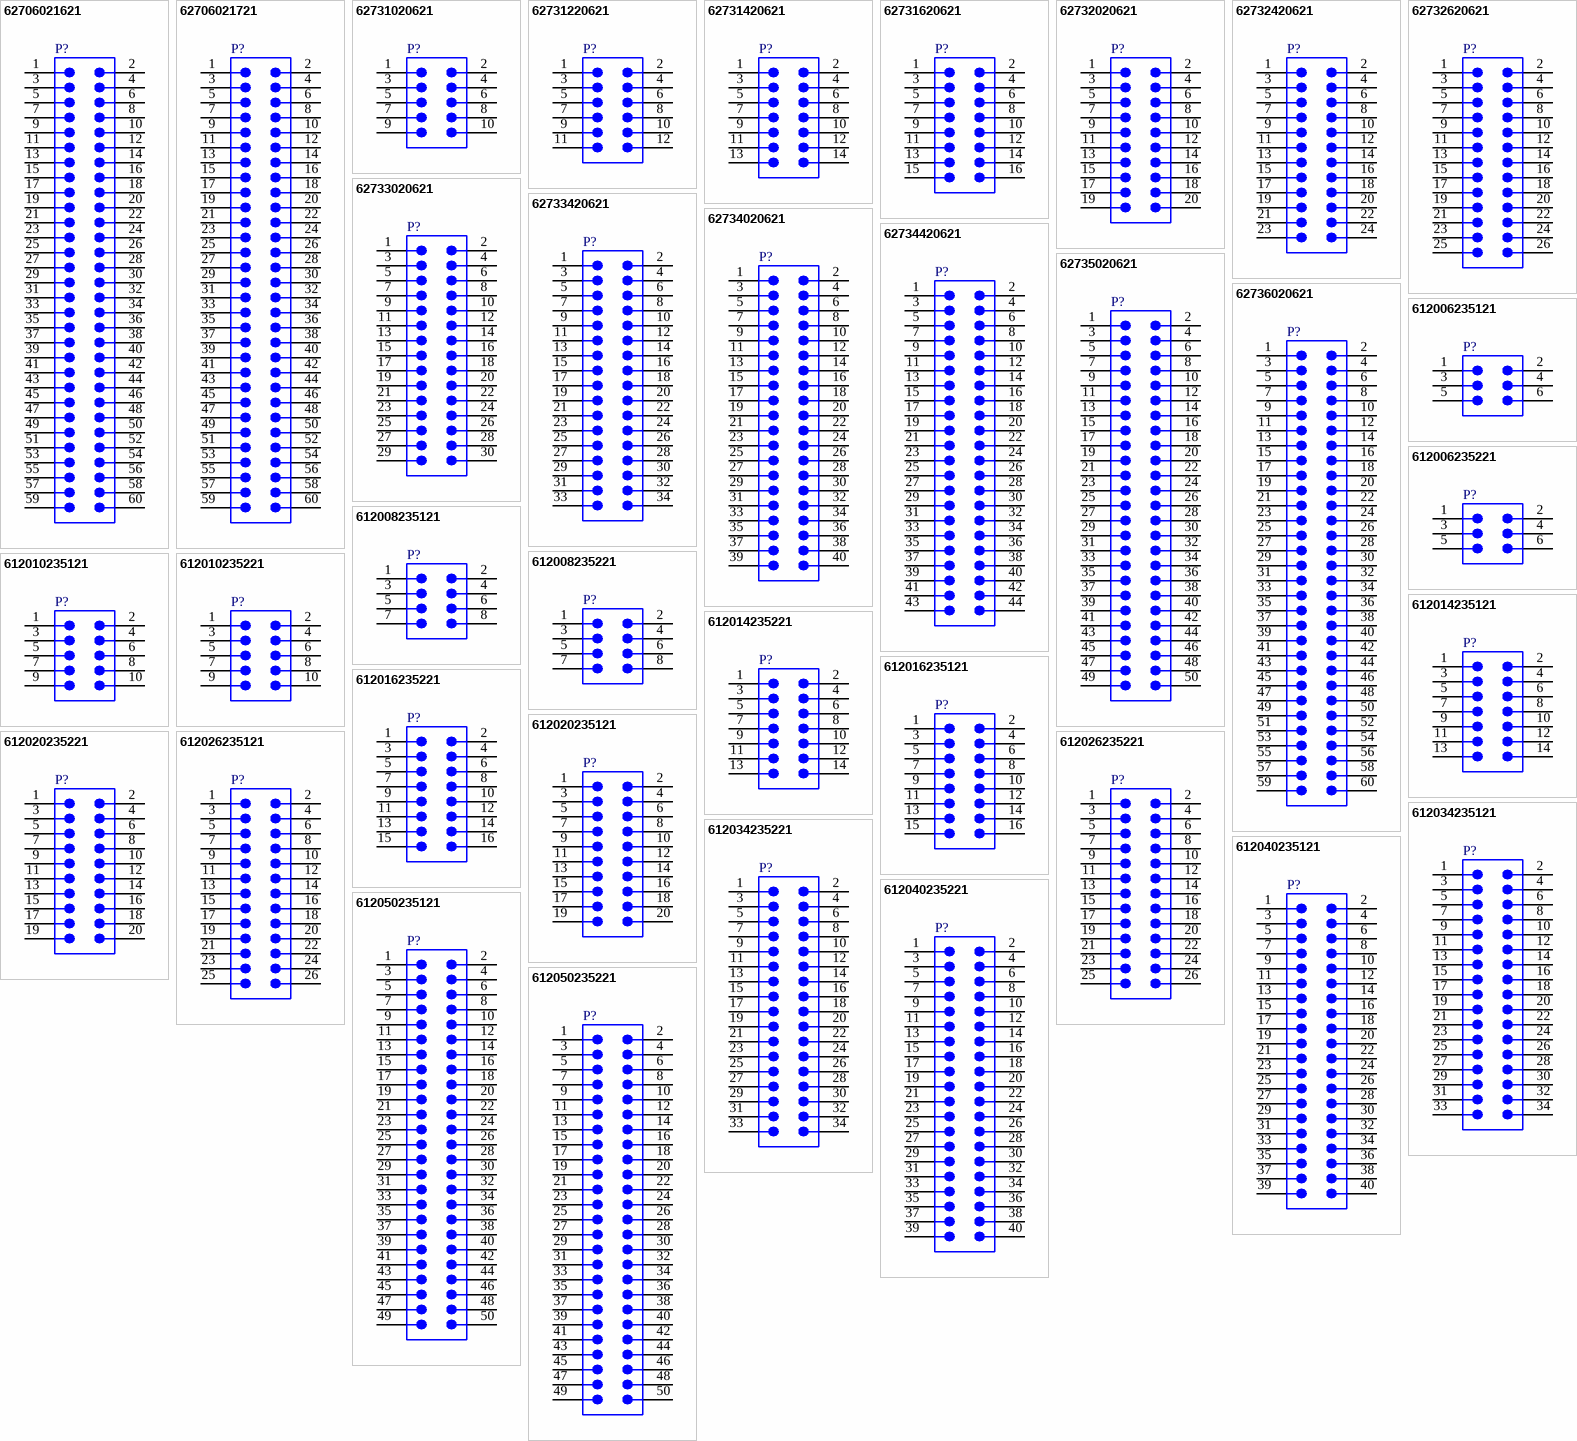
[diagram p5: symbols 62706021621 to 612050235221]

## 62706021621
designator P?  (value not drawn)
WR-BHD Male Box Header, THT Straight, pitch 1.27 mm, 2 Rows, 60 Pins; Manufacturer: Wurth Elektronik; Contact Resistance: 20 mΩ; Insulation Resistance: 1000 MΩ; Pitch: 1.27 mm; Rated Current: 1 A; Working Voltage: 50 V; Withstanding Voltage: 500 V; Manufacturer Part Number: 62706021621; Category: Wire-to-Board Connector; Connectors.Match Code: WR-BHD; ComponentLink1Description: Website Link; ComponentLink1URL: https://www.we-online.com/redexpert/article/62706021621?ad; ComponentLink2Description: Datasheet Link; ComponentLink2URL: https://www.we-online.com/redexpert/spec/62706021621?ad; Mount: Through Hole; Min Operating Temperature: -40 °C; Max Operating Temperature: 105 °C; Packaging: Tube; Length: 44.45 mm; Width: 5 mm; Height: 4.9 mm; Gender: Male; Number of Pins: 60; Number of Rows: 2; Orientation: Straight
footprint 62706021621
pins: 1, 2, 3, 4, 5, 6, 7, 8, 9, 10, 11, 12, 13, 14, 15, 16, 17, 18, 19, 20, 21, 22, 23, 24, 25, 26, 27, 28, 29, 30, 31, 32, 33, 34, 35, 36, 37, 38, 39, 40, 41, 42, 43, 44, 45, 46, 47, 48, 49, 50, 51, 52, 53, 54, 55, 56, 57, 58, 59, 60

## 62706021721
designator P?  (value not drawn)
WR-BHD Male Box Header, THT Right Angle, pitch 1.27 mm, 2 Rows, 60 Pins; Manufacturer: Wurth Elektronik; Contact Resistance: 20 mΩ; Insulation Resistance: 1000 MΩ; Pitch: 1.27 mm; Rated Current: 1 A; Working Voltage: 50 V; Withstanding Voltage: 500 V; Manufacturer Part Number: 62706021721; Category: Wire-to-Board Connector; Connectors.Match Code: WR-BHD; ComponentLink1Description: Website Link; ComponentLink1URL: https://www.we-online.com/redexpert/article/62706021721?ad; ComponentLink2Description: Datasheet Link; ComponentLink2URL: https://www.we-online.com/redexpert/spec/62706021721?ad; Mount: Through Hole; Min Operating Temperature: -40 °C; Max Operating Temperature: 105 °C; Packaging: Tube; Length: 44.45 mm; Width: 6.97 mm; Height: 5 mm; Gender: Male; Number of Pins: 60; Number of Rows: 2; Orientation: Right Angle
footprint 62706021721
pins: 1, 2, 3, 4, 5, 6, 7, 8, 9, 10, 11, 12, 13, 14, 15, 16, 17, 18, 19, 20, 21, 22, 23, 24, 25, 26, 27, 28, 29, 30, 31, 32, 33, 34, 35, 36, 37, 38, 39, 40, 41, 42, 43, 44, 45, 46, 47, 48, 49, 50, 51, 52, 53, 54, 55, 56, 57, 58, 59, 60

## 62731020621
designator P?  (value not drawn)
WR-BHD Male Box Header, SMT Straight, pitch 1.27 mm, 2 Rows, 10 Pins; Manufacturer: Wurth Elektronik; Contact Resistance: 20 mΩ; Insulation Resistance: 1000 MΩ; Pitch: 1.27 mm; Rated Current: 1 A; Working Voltage: 50 V; Withstanding Voltage: 500 V; Manufacturer Part Number: 62731020621; Category: Wire-to-Board Connector; Connectors.Match Code: WR-BHD; ComponentLink1Description: Website Link; ComponentLink1URL: https://www.we-online.com/redexpert/article/62731020621?ad; ComponentLink2Description: Datasheet Link; ComponentLink2URL: https://www.we-online.com/redexpert/spec/62731020621?ad; Mount: Surface Mount; Min Operating Temperature: -40 °C; Max Operating Temperature: 105 °C; Packaging: Tape and Reel; Length: 12.7 mm; Width: 5 mm; Height: 5.3 mm; Gender: Male; Number of Pins: 10; Number of Rows: 2; Orientation: Straight
footprint 62731020621
pins: 1, 2, 3, 4, 5, 6, 7, 8, 9, 10

## 62731220621
designator P?  (value not drawn)
WR-BHD Male Box Header, SMT Straight, pitch 1.27 mm, 2 Rows, 12 Pins; Manufacturer: Wurth Elektronik; Contact Resistance: 20 mΩ; Insulation Resistance: 1000 MΩ; Pitch: 1.27 mm; Rated Current: 1 A; Working Voltage: 50 V; Withstanding Voltage: 500 V; Manufacturer Part Number: 62731220621; Category: Wire-to-Board Connector; Connectors.Match Code: WR-BHD; ComponentLink1Description: Website Link; ComponentLink1URL: https://www.we-online.com/redexpert/article/62731220621?ad; ComponentLink2Description: Datasheet Link; ComponentLink2URL: https://www.we-online.com/redexpert/spec/62731220621?ad; Mount: Surface Mount; Min Operating Temperature: -40 °C; Max Operating Temperature: 105 °C; Packaging: Tape and Reel; Length: 13.97 mm; Width: 5 mm; Height: 5.3 mm; Gender: Male; Number of Pins: 12; Number of Rows: 2; Orientation: Straight
footprint 62731220621
pins: 1, 2, 3, 4, 5, 6, 7, 8, 9, 10, 11, 12

## 62731420621
designator P?  (value not drawn)
WR-BHD Male Box Header, SMT Straight, pitch 1.27 mm, 2 Rows, 14 Pins; Manufacturer: Wurth Elektronik; Contact Resistance: 20 mΩ; Insulation Resistance: 1000 MΩ; Pitch: 1.27 mm; Rated Current: 1 A; Working Voltage: 50 V; Withstanding Voltage: 500 V; Manufacturer Part Number: 62731420621; Category: Wire-to-Board Connector; Connectors.Match Code: WR-BHD; ComponentLink1Description: Website Link; ComponentLink1URL: https://www.we-online.com/redexpert/article/62731420621?ad; ComponentLink2Description: Datasheet Link; ComponentLink2URL: https://www.we-online.com/redexpert/spec/62731420621?ad; Mount: Surface Mount; Min Operating Temperature: -40 °C; Max Operating Temperature: 105 °C; Packaging: Tape and Reel; Length: 15.24 mm; Width: 5 mm; Height: 5.3 mm; Gender: Male; Number of Pins: 14; Number of Rows: 2; Orientation: Straight
footprint 62731420621
pins: 1, 2, 3, 4, 5, 6, 7, 8, 9, 10, 11, 12, 13, 14

## 62731620621
designator P?  (value not drawn)
WR-BHD Male Box Header, SMT Straight, pitch 1.27 mm, 2 Rows, 16 Pins; Manufacturer: Wurth Elektronik; Contact Resistance: 20 mΩ; Insulation Resistance: 1000 MΩ; Pitch: 1.27 mm; Rated Current: 1 A; Working Voltage: 50 V; Withstanding Voltage: 500 V; Manufacturer Part Number: 62731620621; Category: Wire-to-Board Connector; Connectors.Match Code: WR-BHD; ComponentLink1Description: Website Link; ComponentLink1URL: https://www.we-online.com/redexpert/article/62731620621?ad; ComponentLink2Description: Datasheet Link; ComponentLink2URL: https://www.we-online.com/redexpert/spec/62731620621?ad; Mount: Surface Mount; Min Operating Temperature: -40 °C; Max Operating Temperature: 105 °C; Packaging: Tape and Reel; Length: 16.51 mm; Width: 5 mm; Height: 5.3 mm; Gender: Male; Number of Pins: 16; Number of Rows: 2; Orientation: Straight
footprint 62731620621
pins: 1, 2, 3, 4, 5, 6, 7, 8, 9, 10, 11, 12, 13, 14, 15, 16

## 62732020621
designator P?  (value not drawn)
WR-BHD Male Box Header, SMT Straight, pitch 1.27 mm, 2 Rows, 20 Pins; Manufacturer: Wurth Elektronik; Contact Resistance: 20 mΩ; Insulation Resistance: 1000 MΩ; Pitch: 1.27 mm; Rated Current: 1 A; Working Voltage: 50 V; Withstanding Voltage: 500 V; Manufacturer Part Number: 62732020621; Category: Wire-to-Board Connector; Connectors.Match Code: WR-BHD; ComponentLink1Description: Website Link; ComponentLink1URL: https://www.we-online.com/redexpert/article/62732020621?ad; ComponentLink2Description: Datasheet Link; ComponentLink2URL: https://www.we-online.com/redexpert/spec/62732020621?ad; Mount: Surface Mount; Min Operating Temperature: -40 °C; Max Operating Temperature: 105 °C; Packaging: Tape and Reel; Length: 19.05 mm; Width: 5 mm; Height: 5.3 mm; Gender: Male; Number of Pins: 20; Number of Rows: 2; Orientation: Straight
footprint 62732020621
pins: 1, 2, 3, 4, 5, 6, 7, 8, 9, 10, 11, 12, 13, 14, 15, 16, 17, 18, 19, 20

## 62732420621
designator P?  (value not drawn)
WR-BHD Male Box Header, SMT Straight, pitch 1.27 mm, 2 Rows, 24 Pins; Manufacturer: Wurth Elektronik; Contact Resistance: 20 mΩ; Insulation Resistance: 1000 MΩ; Pitch: 1.27 mm; Rated Current: 1 A; Working Voltage: 50 V; Withstanding Voltage: 500 V; Manufacturer Part Number: 62732420621; Category: Wire-to-Board Connector; Connectors.Match Code: WR-BHD; ComponentLink1Description: Website Link; ComponentLink1URL: https://www.we-online.com/redexpert/article/62732420621?ad; ComponentLink2Description: Datasheet Link; ComponentLink2URL: https://www.we-online.com/redexpert/spec/62732420621?ad; Mount: Surface Mount; Min Operating Temperature: -40 °C; Max Operating Temperature: 105 °C; Packaging: Tape and Reel; Length: 21.59 mm; Width: 5 mm; Height: 5.3 mm; Gender: Male; Number of Pins: 24; Number of Rows: 2; Orientation: Straight
footprint 62732420621
pins: 1, 2, 3, 4, 5, 6, 7, 8, 9, 10, 11, 12, 13, 14, 15, 16, 17, 18, 19, 20, 21, 22, 23, 24

## 62732620621
designator P?  (value not drawn)
WR-BHD Male Box Header, SMT Straight, pitch 1.27 mm, 2 Rows, 26 Pins; Manufacturer: Wurth Elektronik; Contact Resistance: 20 mΩ; Insulation Resistance: 1000 MΩ; Pitch: 1.27 mm; Rated Current: 1 A; Working Voltage: 50 V; Withstanding Voltage: 500 V; Manufacturer Part Number: 62732620621; Category: Wire-to-Board Connector; Connectors.Match Code: WR-BHD; ComponentLink1Description: Website Link; ComponentLink1URL: https://www.we-online.com/redexpert/article/62732620621?ad; ComponentLink2Description: Datasheet Link; ComponentLink2URL: https://www.we-online.com/redexpert/spec/62732620621?ad; Mount: Surface Mount; Min Operating Temperature: -40 °C; Max Operating Temperature: 105 °C; Packaging: Tape and Reel; Length: 22.86 mm; Width: 5 mm; Height: 5.3 mm; Gender: Male; Number of Pins: 26; Number of Rows: 2; Orientation: Straight
footprint 62732620621
pins: 1, 2, 3, 4, 5, 6, 7, 8, 9, 10, 11, 12, 13, 14, 15, 16, 17, 18, 19, 20, 21, 22, 23, 24, 25, 26

## 62733020621
designator P?  (value not drawn)
WR-BHD Male Box Header, SMT Straight, pitch 1.27 mm, 2 Rows, 30 Pins; Manufacturer: Wurth Elektronik; Contact Resistance: 20 mΩ; Insulation Resistance: 1000 MΩ; Pitch: 1.27 mm; Rated Current: 1 A; Working Voltage: 50 V; Withstanding Voltage: 500 V; Manufacturer Part Number: 62733020621; Category: Wire-to-Board Connector; Connectors.Match Code: WR-BHD; ComponentLink1Description: Website Link; ComponentLink1URL: https://www.we-online.com/redexpert/article/62733020621?ad; ComponentLink2Description: Datasheet Link; ComponentLink2URL: https://www.we-online.com/redexpert/spec/62733020621?ad; Mount: Surface Mount; Min Operating Temperature: -40 °C; Max Operating Temperature: 105 °C; Packaging: Tape and Reel; Length: 25.4 mm; Width: 5 mm; Height: 5.3 mm; Gender: Male; Number of Pins: 30; Number of Rows: 2; Orientation: Straight
footprint 62733020621
pins: 1, 2, 3, 4, 5, 6, 7, 8, 9, 10, 11, 12, 13, 14, 15, 16, 17, 18, 19, 20, 21, 22, 23, 24, 25, 26, 27, 28, 29, 30

## 62733420621
designator P?  (value not drawn)
WR-BHD Male Box Header, SMT Straight, pitch 1.27 mm, 2 Rows, 34 Pins; Manufacturer: Wurth Elektronik; Contact Resistance: 20 mΩ; Insulation Resistance: 1000 MΩ; Pitch: 1.27 mm; Rated Current: 1 A; Working Voltage: 50 V; Withstanding Voltage: 500 V; Manufacturer Part Number: 62733420621; Category: Wire-to-Board Connector; Connectors.Match Code: WR-BHD; ComponentLink1Description: Website Link; ComponentLink1URL: https://www.we-online.com/redexpert/article/62733420621?ad; ComponentLink2Description: Datasheet Link; ComponentLink2URL: https://www.we-online.com/redexpert/spec/62733420621?ad; Mount: Surface Mount; Min Operating Temperature: -40 °C; Max Operating Temperature: 105 °C; Packaging: Tape and Reel; Length: 27.94 mm; Width: 5 mm; Height: 5.3 mm; Gender: Male; Number of Pins: 34; Number of Rows: 2; Orientation: Straight
footprint 62733420621
pins: 1, 2, 3, 4, 5, 6, 7, 8, 9, 10, 11, 12, 13, 14, 15, 16, 17, 18, 19, 20, 21, 22, 23, 24, 25, 26, 27, 28, 29, 30, 31, 32, 33, 34